# EAGLE library part DAC7552 (library TI)
2 Channel 12 bit SPI Digital to Analog Converter
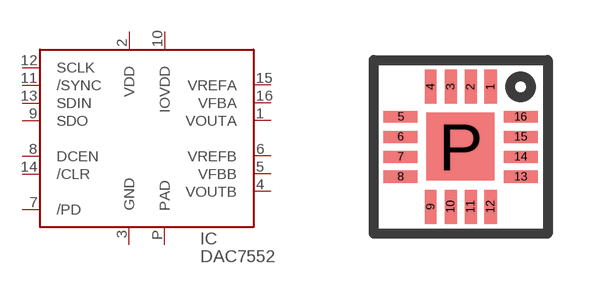
[diagram p4: symbol with the pads of QFN16; footprint QFN16]

Designator prefix IC

## DAC7552RGT  [QFN16]
1  VOUTA
2  VDD  pwr
3  GND  pwr
4  VOUTB
5  VFBB
6  VREFB
7  /PD
8  DCEN
9  SDO
10  IOVDD  pwr
11  /SYNC
12  SCLK
13  SDIN
14  /CLR
15  VREFA
16  VFBA
P  PAD

## Footprint QFN16 (pad centres in mm)
QFN16 (Texas Instruments)
smd 0.3 x 0.85: 1 0.75,1.5; 2 0.25,1.5; 3 -0.25,1.5; 4 -0.75,1.5; 9 -0.75,-1.5; 10 -0.25,-1.5; 11 0.25,-1.5; 12 0.75,-1.5
smd 0.85 x 0.3: 5 -1.5,0.75; 6 -1.5,0.25; 7 -1.5,-0.25; 8 -1.5,-0.75; 13 1.5,-0.75; 14 1.5,-0.25; 15 1.5,0.25; 16 1.5,0.75
smd 1.7 x 1.7: P 0,0